# Altium footprint library UPS_V1.PcbLib: 16 footprints
Each footprint in its own frame and in the unit in brackets; x right, y up, seen from the top. Pads: shape width x height; smd on the part's side, far side on the other; paste and mask are expansions set on the pad; w line width, h text height; cw(c..) or ccw(c..) is an arc to the next point about the centre after c.
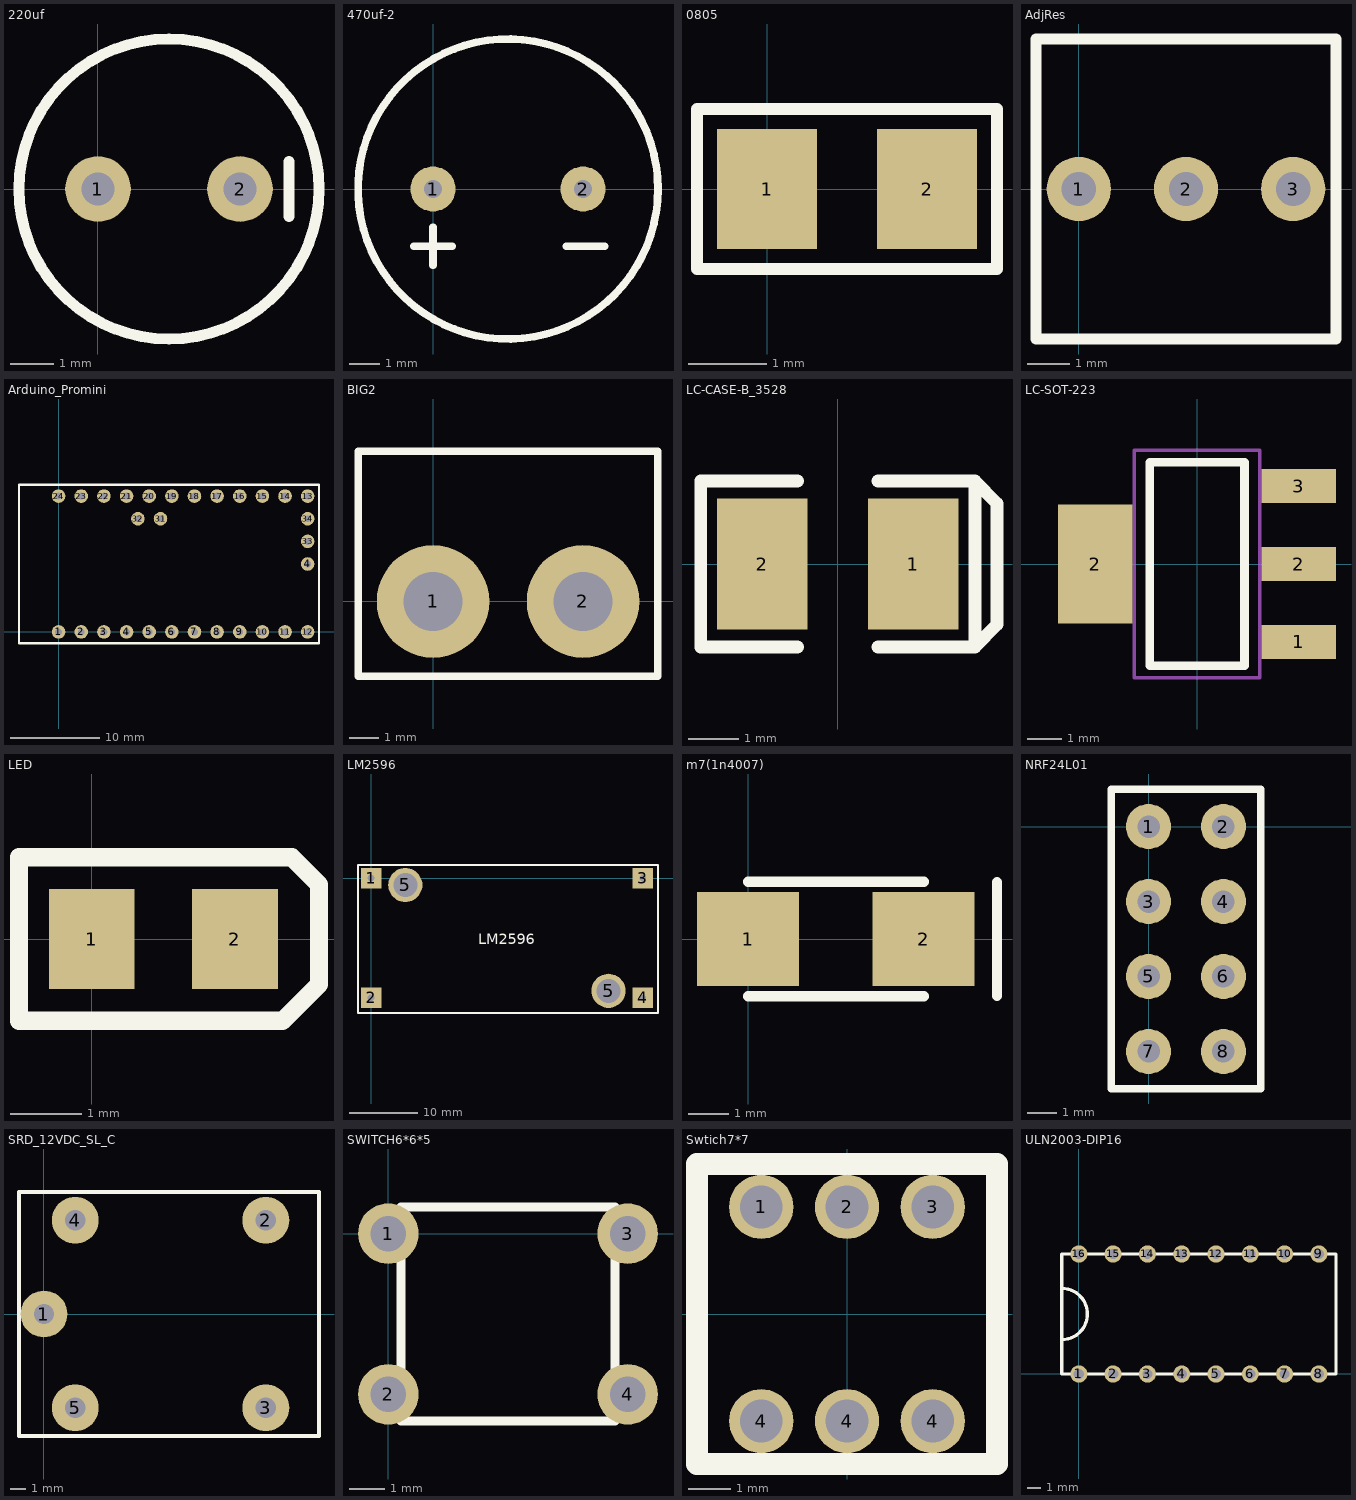
[diagram p0: the footprints below, top view; thin cyan lines are the x and y axes]

## 220uf [mil]
pads (2):
  round 60 hole 30: 1(0,0) 2(130,0)
Top Overlay:
  circle w10: c65,0 r137.3
  lines w10: 175,-25 175,25

## 470uf-2 [mm]
pads (2):
  round 1.5 hole 0.6: 1(0,0) 2(5,0)
Top Overlay:
  circle w0.254: c2.5,0 r5
  lines w0.254: -0.635,-1.905 0.635,-1.905 ; 0,-2.54 0,-1.27 ; 4.445,-1.905 5.715,-1.905

## 0805 [mil]
pads (2):
  rect 50x60 smd: 1(0,0) 2(80,0)
Top Overlay:
  lines w6: -35,-40 115,-40 115,40 -35,40 -35,-40

## AdjRes [mm]
height 5.8
pads (3):
  round 1.5 hole 0.8: 1(0,0) 2(2.5,0) 3(5,0)
Top Overlay:
  lines w0.254: -1,-3.5 6,-3.5 6,3.5 -1,3.5 -1,-3.5

## Arduino_Promini [mil]
pads (29):
  round 60 hole 30: 1(0,0) 2(100,0) 3(200,0) 4(300,0) 4(1100,300) 5(400,0) 6(500,0) 7(600,0) 8(700,0) 9(800,0) 10(900,0) 11(1000,0) 12(1100,0) 13(1100,600) 14(1000,600) 15(900,600) 16(800,600) 17(700,600) 18(600,600) 19(500,600) 20(400,600) 21(300,600) 22(200,600) 23(100,600) 24(0,600) 31(450,500) 32(350,500) 33(1100,400) 34(1100,500)
Top Overlay:
  lines w10: -175,-50 1150,-50 1150,650 -175,650 -175,-50

## BIG2 [mm]
pads (2):
  round 3.81 hole 2: 1(0,0) 2(5.08,0)
Top Overlay:
  lines w0.254: -2.54,-2.54 7.62,-2.54 7.62,5.08 -2.54,5.08 -2.54,-2.54

## LC-CASE-B_3528 [mm]
pads (2):
  rect 1.8x2.6 smd: 1(1.5,0) 2(-1.5,0)
Top Overlay:
  lines w0.254: -0.8,-1.65 -2.727,-1.65 -2.727,1.65 -0.8,1.65 ; 0.8,-1.65 2.727,-1.65 ; 0.8,1.65 2.727,1.65 ; 2.727,-1.65 2.727,1.65 ; 2.727,-1.65 3.163,-1.2 3.163,1.2 2.727,1.65
3D body: height 2.03, standoff 0, extent -1.85,-1.465 1.85,1.465

## LC-SOT-223 [mm]
pads (4):
  rect 2.2x1 smd: 1(3,-2.3) 2(3,0) 3(3,2.3)
  rect 2.2x3.5 smd: 2(-3,0)
Top Overlay:
  lines w0.254: -1.4,-3 1.4,-3 1.4,3 -1.4,3 -1.4,-3
Mechanical 13:
  lines w0.1: -1.85,-3.35 -1.85,3.35 1.85,3.35 1.85,-3.35 -1.85,-3.35
3D body: height 1.64, standoff -0.04, extent -3.49,-3.242 3.49,3.243

## LED [mm]
pads (2):
  rect 1.2x1.4 smd: 1(0,0) 2(2,0)
Top Overlay:
  lines w0.254: -1.016,-1.143 2.667,-1.143 3.175,-0.635 3.175,0.762 2.794,1.143 -1.016,1.143 -1.016,-1.143

## LM2596 [mm]
pads (6):
  rect 3x3 hole 1: 1(0,0) 2(0,-17.462) 3(39.688,0) 4(39.688,-17.462)
  round 5 hole 3.5: 5(5,-1) 5(34.688,-16.462)
Top Overlay:
  lines w0.254: -1.905,-19.685 41.91,-19.685 41.91,1.905 -1.905,1.905 -1.905,-19.685
  text "LM2596" at 15.621,-9.652 h1.52

## m7(1n4007) [mm]
pads (2):
  rect 2.5x2.3 smd: 1(0,0) 2(4.3,0)
Top Overlay:
  lines w0.254: 0,-1.4 4.3,-1.4 ; 0,1.4 4.3,1.4 ; 6.096,-1.397 6.096,1.397

## NRF24L01 [mil]
pads (8):
  round 60 hole 30: 1(0,0) 2(100,0) 3(0,-100) 4(100,-100) 5(0,-200) 6(100,-200) 7(0,-300) 8(100,-300)
Top Overlay:
  lines w10: -50,-350 -50,50 150,50 150,-350 -50,-350

## SRD_12VDC_SL_C [mm]
pads (5):
  round 3 hole 1.3: 1(0,0) 2(14.2,6) 3(14.2,-6) 4(2,6) 5(2,-6)
Top Overlay:
  lines w0.254: -1.6,-7.8 17.6,-7.8 17.6,7.8 -1.6,7.8 -1.6,-7.8

## SWITCH6*6*5 [mm]
pads (4):
  round 1.7 hole 1: 1(0,0) 2(0,-4.5) 3(6.7,0) 4(6.7,-4.5)
Top Overlay:
  lines w0.254: 0.35,-5.25 0.35,0.75 6.35,0.75 6.35,-5.25 0.35,-5.25

## Swtich7*7 [mm]
pads (6):
  round 1.5 hole 1: 1(-2,2.5) 2(0,2.5) 3(2,2.5) 4(-2,-2.5) 4(0,-2.5) 4(2,-2.5)
Top Overlay:
  lines w0.508: -3.5,-3.5 -3.5,3.5 3.5,3.5 3.5,-3.5 -3.5,-3.5

## ULN2003-DIP16 [mil]
pads (16):
  round 50 hole 30: 1(0,0) 2(100,0) 3(200,0) 4(300,0) 5(400,0) 6(500,0) 7(600,0) 8(700,0) 9(700,350) 10(600,350) 11(500,350) 12(400,350) 13(300,350) 14(200,350) 15(100,350) 16(0,350)
Top Overlay:
  lines w10: -50,100 ccw(c-50,175) -50,250 ; -50,0 750,0 750,350 -50,350 -50,0